# Altium integrated library Components - tant cap A case.IntLib: 1 symbol
Pins are listed as number, name and electrical type; pins without a type are passive.

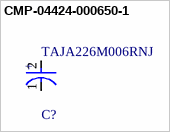
[diagram p0: symbol CMP-04424-000650-1]

## CMP-04424-000650-1
designator C?, comment TAJA226M006RNJ
22uF 6.3V  ±20% 3Ω 1206  SMD Tantalum Capacitor; Polarity: Polar; ESR (Equivalent Series Resistance): 3R; Leakage Current: 1.4uA; Dissipation Factor: 6%; Series: TAJ; Construction: Flat; Package Quantity: 1; Tolerance: 20%; Min Operating Temperature: -55°C; Height - Seated (Max): 0.071inch; Number of Pins: 2; Lead Free: Lead Free; Voltage Rating (DC): 6.3V; Height: 1.8mm; REACH SVHC: No SVHC; Length: 3.2mm; Case/Package: 1206; Max Operating Temperature: 125°C; Radiation Hardening: No; RoHS Compliant: Yes; Case Code (Metric): 3216; Voltage Rating: 6.3V; Mount: Surface Mount; Depth: 1.6mm; Case Code (Imperial): 1206; Packaging: Tape and Reel; Features: General Purpose; Capacitance: 22uF; Width: 1.6mm; Termination: SMD/SMT
footprint FP-TAJA-MFG
pins: 1 C, 2 A
text: +